# Altium schematic symbol library dualopamp.SchLib: 1 symbol
Pins are listed as number, name and electrical type; pins without a type are passive.

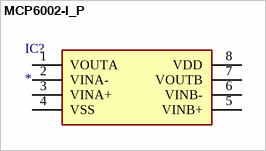
[diagram p0: symbol MCP6002-I_P]

## MCP6002-I_P
designator IC?
Integrated Circuit; Manufacturer_Name: Microchip; Manufacturer_Part_Number: MCP6002-I/P; Datasheet Link: https://componentsearchengine.com//MCP6002-I_P.pdf; Height: 5.334mm; Mouser2 Part Number: 579-MCP6002-I/P; Mouser2 Price/Stock: https://www.mouser.com/Search/Refine.aspx?Keyword=579-MCP6002-I%2FP
footprint DIP781W56P254L950H533Q8N
pins: 1 VOUTA, 2 VINA-, 3 VINA+, 4 VSS, 5 VINB+, 6 VINB-, 7 VOUTB, 8 VDD